# EAGLE library part RN_4 (library be_rcl)
edited: Mario Blunk / Blunk electronic
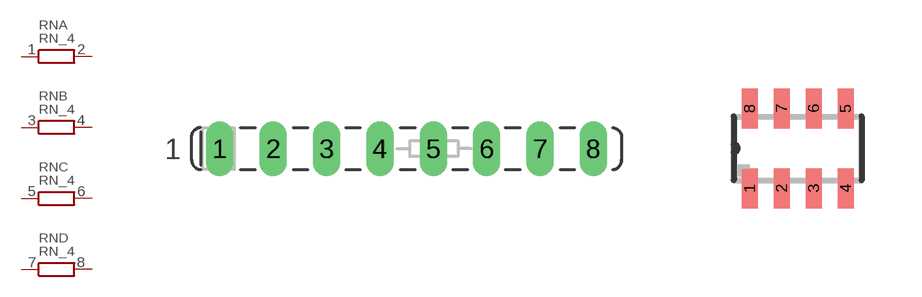
[diagram p1: symbol with the pads of T_SIL8; footprints T_SIL8, S_1206_4X]

Designator prefix RN; gates A=RN_1_OF_X B=RN_1_OF_X C=RN_1_OF_X D=RN_1_OF_X

## RN_4T_SIL8 (BOM: YES; COMMISSIONED: 2014-10-14; PART_CODE_BEL: RN_PAC_T_SIL8_VAL_; UPDATED: 2015-10-14)  [T_SIL8]
1  A:1  pas
2  A:2  pas
3  B:1  pas
4  B:2  pas
5  C:1  pas
6  C:2  pas
7  D:1  pas
8  D:2  pas

## RN_4S_1206 (BOM: YES; COMMISSIONED: 2018-05-29; PART_CODE_BEL: RN_PAC_S_1206_4X_VAL_)  [S_1206_4X]
1  A:1  pas
2  B:1  pas
3  C:1  pas
4  D:1  pas
5  D:2  pas
6  C:2  pas
7  B:2  pas
8  A:2  pas

## Footprint T_SIL8 (pad centres in mm)
edited: Mario Blunk / Blunk electronic date: 2015-10-26
drill 0.8 long: 1 -8.89,0; 2 -6.35,0; 3 -3.81,0; 4 -1.27,0; 5 1.27,0; 6 3.81,0; 7 6.35,0; 8 8.89,0

## Footprint S_1206_4X (pad centres in mm)
edited: Mario Blunk date: 2018-06-01
smd 0.4 x 1: 1 -1.2,-1; 2 -0.4,-1; 3 0.4,-1; 4 1.2,-1; 5 1.2,1; 6 0.4,1; 7 -0.4,1; 8 -1.2,1